# Altium schematic symbol library VIB_MOTOR.SchLib: 1 symbol
Pins are listed as number, name and electrical type; pins without a type are passive.

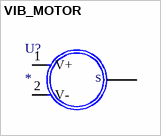
[diagram p0: symbol VIB_MOTOR]

## VIB_MOTOR
designator U?
Value: *
pins: 1 V+ (power), 2 V- (power), 3 SHIELD, 4 SHIELD, 5 SHIELD, 6 SHIELD
text: S